# Altium footprint library COPAL_trimmer_10k_smd.PcbLib: 1 footprints
Each footprint in its own frame and in the unit in brackets; x right, y up, seen from the top. Pads: shape width x height; smd on the part's side, far side on the other; paste and mask are expansions set on the pad; w line width, h text height; cw(c..) or ccw(c..) is an arc to the next point about the centre after c.
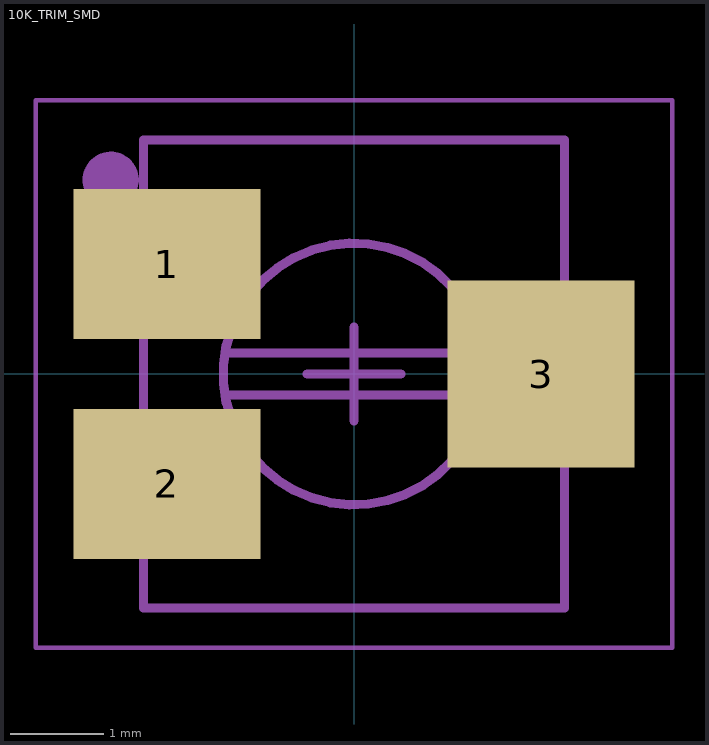
[diagram p0: the footprint, top view; thin cyan lines are the x and y axes]

## 10K_TRIM_SMD [mm] "10K Trim-Pot, 3 J-lead SMD"
height 2.3
pads (3):
  rect 2x1.6 smd: 1(-2,1.175) 2(-2,-1.175)
  rect 2x2 smd: 3(2,0)
Mechanical 6:
  text "'.Designator'" at -1.5,-0.25 h0.6
Mechanical 8:
  circle w0.3: c-2.6,2.075 r0.15
  lines w0.05: -3.4,-2.925 -3.4,2.925 3.4,2.925 3.4,-2.925 -3.4,-2.925
Mechanical 13:
  circle w0.1: c0,0 r1.398
  lines w0.1: -2.25,-1.775 -2.6,-1.775 -2.6,-0.575 -2.25,-0.575 ; -2.25,0.575 -2.6,0.575 -2.6,1.775 -2.25,1.775 ; -1.375,-0.225 1.375,-0.225 ; -1.375,0.225 1.375,0.225 ; 2.25,-0.6 2.6,-0.6 2.6,0.6 2.25,0.6 ; -2.25,-2.5 -2.25,2.5 2.25,2.5 2.25,-2.5 -2.25,-2.5
Mechanical 15:
  lines w0.05: -3.4,-2.925 3.4,-2.925 3.4,2.925 -3.4,2.925 -3.4,-2.925
  lines w0.1: -0.5,0 0.5,0 ; 0,-0.5 0,0.5
3D body "ST-4ETA10k_(103).stp": height 2.3, standoff 0, extent -2.6,-2.5 2.6,2.5